# Altium schematic symbol library HEAD_CAN.SchLib: 1 symbol
Pins are listed as number, name and electrical type; pins without a type are passive.

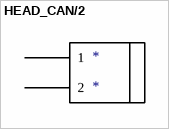
[diagram p0: symbol HEAD_CAN/2]

## HEAD_CAN/2
designator *
footprint 2PIN-5.08A
pins: CANH 1, CANL 2